# EAGLE library part 1588 (library matriLedWatch)
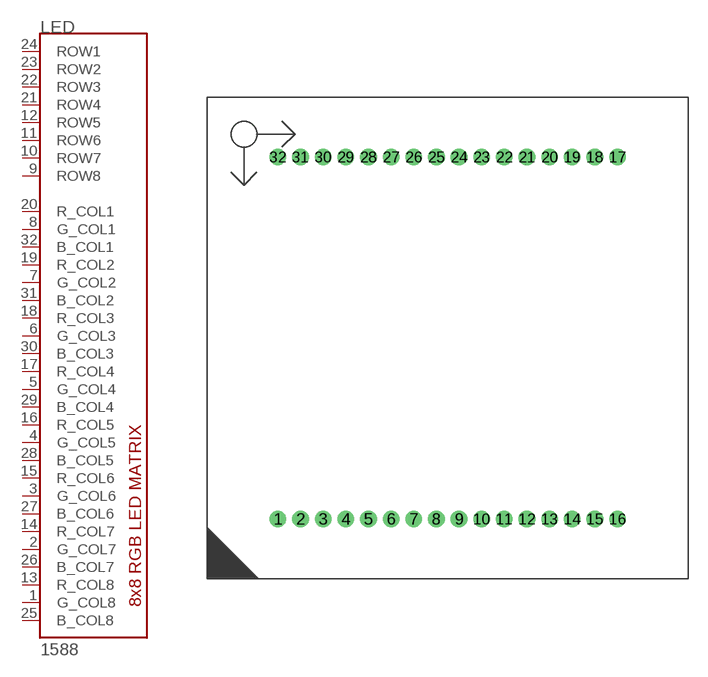
[diagram p7: symbol with the pads of 1588; footprint 1588]

Designator prefix LED

## 1588  [1588]
1  G_COL8
2  G_COL7
3  G_COL6
4  G_COL5
5  G_COL4
6  G_COL3
7  G_COL2
8  G_COL1
9  ROW8
10  ROW7
11  ROW6
12  ROW5
13  R_COL8
14  R_COL7
15  R_COL6
16  R_COL5
17  R_COL4
18  R_COL3
19  R_COL2
20  R_COL1
21  ROW4
22  ROW3
23  ROW2
24  ROW1
25  B_COL8
26  B_COL7
27  B_COL6
28  B_COL5
29  B_COL4
30  B_COL3
31  B_COL2
32  B_COL1

## Footprint 1588 (pad centres in mm)
drill 0.8 round: 1 -13.335,-14.2; 2 -11.557,-14.2; 3 -9.779,-14.2; 4 -8.001,-14.2; 5 -6.223,-14.2; 6 -4.445,-14.2; 7 -2.667,-14.2; 8 -0.889,-14.2; 9 0.889,-14.2; 10 2.667,-14.2; 11 4.445,-14.2; 12 6.223,-14.2; 13 8.001,-14.2; 14 9.779,-14.2; 15 11.557,-14.2; 16 13.335,-14.2; 17 13.335,14.2; 18 11.557,14.2; 19 9.779,14.2; 20 8.001,14.2; 21 6.223,14.2; 22 4.445,14.2; 23 2.667,14.2; 24 0.889,14.2; 25 -0.889,14.2; 26 -2.667,14.2; 27 -4.445,14.2; 28 -6.223,14.2; 29 -8.001,14.2; 30 -9.779,14.2; 31 -11.557,14.2; 32 -13.335,14.2